# Altium integrated library Altium_WRIS-PWMC (rev19a).IntLib: 4 symbols
Pins are listed as number, name and electrical type; pins without a type are passive.

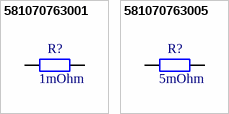
[diagram p0: symbols 581070763001 to 581070763005]

## 581070763001
designator R?, comment 1mOhm
WRIS-PWMC Metal Plate Resistors, size 1225, 1mOhm, +/-1%, 3W; Part Number: 581070763001; Rated Current: 54.77A; Temperature Coefficient of Resistance: +/-100ppm/degC; Technical Reference: MC1225R001F301KACTE0000; ComponentLink1Description: Manufacturer; ComponentLink1URL: http://www.we-online.de; ComponentLink2Description: Datasheet; ComponentLink2URL: https://katalog.we-online.com/pbs/datasheet/581070763001.pdf; Publisher: Wurth Elektronik; Rated Power: 3W; Resistance: 1mOhm; Mounting Technology: SMT; Height: 0.2mm; Packaging: Tape and Reel; Published Date: September 2019; Size: 1225; Length: 3.2mm; Operating Temperature: -55 to +170degC; Resistance Tolerance: +/-1%; Width: 6.3mm
footprint WRIS-PWMC_1225_H=0.2mm
pins: 1, 2

## 581070763005
designator R?, comment 5mOhm
WRIS-PWMC Metal Plate Resistors, size 1225, 5mOhm, +/-1%, 3W; Part Number: 581070763005; Rated Current: 24.49A; Temperature Coefficient of Resistance: +/-100ppm/degC; Technical Reference: MC1225R005F301KACTE0000; ComponentLink1Description: Manufacturer; ComponentLink1URL: http://www.we-online.de; ComponentLink2Description: Datasheet; ComponentLink2URL: https://katalog.we-online.com/pbs/datasheet/581070763005.pdf; Publisher: Wurth Elektronik; Rated Power: 3W; Resistance: 5mOhm; Mounting Technology: SMT; Height: 0.2mm; Packaging: Tape and Reel; Published Date: September 2019; Size: 1225; Length: 3.2mm; Operating Temperature: -55 to +170degC; Resistance Tolerance: +/-1%; Width: 6.3mm
footprint WRIS-PWMC_1225_H=0.2mm
pins: 1, 2


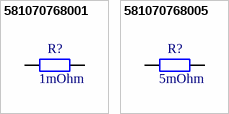
[diagram p1: symbols 581070768001 to 581070768005]

## 581070768001
designator R?, comment 1mOhm
WRIS-PWMC Metal Plate Resistors, size 2043, 1mOhm, +/-1%, 6W; Part Number: 581070768001; Rated Current: 77.46A; Temperature Coefficient of Resistance: +/-100ppm/degC; Technical Reference: MC2043R001F601KACTE0000; ComponentLink1Description: Manufacturer; ComponentLink1URL: http://www.we-online.de; ComponentLink2Description: Datasheet; ComponentLink2URL: https://katalog.we-online.com/pbs/datasheet/581070768001.pdf; Publisher: Wurth Elektronik; Rated Power: 6W; Resistance: 1mOhm; Mounting Technology: SMT; Height: 0.2mm; Packaging: Tape and Reel; Published Date: September 2019; Size: 2043; Length: 5mm; Operating Temperature: -55 to +170degC; Resistance Tolerance: +/-1%; Width: 11mm
footprint WRIS-PWMC_2043_H=0.2mm
pins: 1, 2

## 581070768005
designator R?, comment 5mOhm
WRIS-PWMC Metal Plate Resistors, size 2043, 5mOhm, +/-1%, 6W; Part Number: 581070768005; Rated Current: 34.6A; Temperature Coefficient of Resistance: +/-100ppm/degC; Technical Reference: MC2043R005F601KACTE0000; ComponentLink1Description: Manufacturer; ComponentLink1URL: http://www.we-online.de; ComponentLink2Description: Datasheet; ComponentLink2URL: https://katalog.we-online.com/pbs/datasheet/581070768005.pdf; Publisher: Wurth Elektronik; Rated Power: 6W; Resistance: 5mOhm; Mounting Technology: SMT; Height: 0.2mm; Packaging: Tape and Reel; Published Date: September 2019; Size: 2043; Length: 5mm; Operating Temperature: -55 to +170degC; Resistance Tolerance: +/-1%; Width: 11mm
footprint WRIS-PWMC_2043_H=0.2mm
pins: 1, 2